# Altium schematic symbol library WPN4020H2R2MT.SchLib: 1 symbol
Pins are listed as number, name and electrical type; pins without a type are passive.

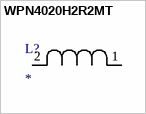
[diagram p0: symbol WPN4020H2R2MT]

## WPN4020H2R2MT
designator L?
2.2 µH Shielded Drum Core, Wirewound Inductor 4.3 A 48mOhm Max Nonstandard; Mfr_Name: Sunlord; Manufacturer Part Number: WPN4020H2R2MT; Type: Fixed Inductors; Supplier: Digikey; Supplier Part Number: 3442-WPN4020H2R2MTCT-ND; Manufacturer: Sunlord; RoHS: No; Category: Fixed Inductors
footprint IND_WPN4020H_SNL
pins: 1, 2